# Altium footprint library MPU6050.PcbLib: 1 footprints
Each footprint in its own frame and in the unit in brackets; x right, y up, seen from the top. Pads: shape width x height; smd on the part's side, far side on the other; paste and mask are expansions set on the pad; w line width, h text height; cw(c..) or ccw(c..) is an arc to the next point about the centre after c.
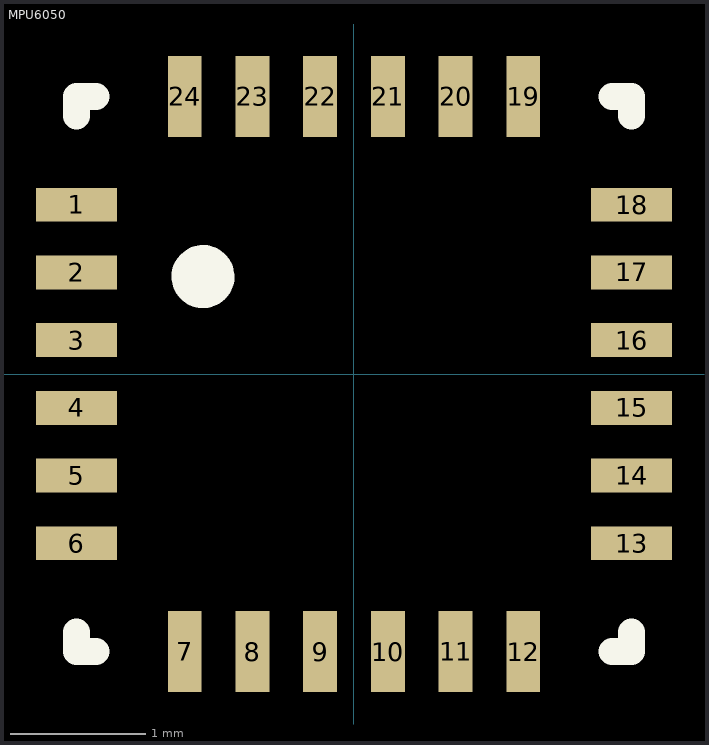
[diagram p0: the footprint, top view; thin cyan lines are the x and y axes]

## MPU6050 [mm]
pads (24):
  rect 0.6x0.25 smd: 1(-2.05,1.25) 2(-2.05,0.75) 3(-2.05,0.25) 4(-2.05,-0.25) 5(-2.05,-0.75) 13(2.05,-1.25) 14(2.05,-0.75) 15(2.05,-0.25) 16(2.05,0.25) 17(2.05,0.75) 18(2.05,1.25)
  rect 0.6x0.25 smd mask+0.102: 6(-2.05,-1.25)
  rect 0.25x0.6 smd: 7(-1.25,-2.05) 8(-0.75,-2.05) 9(-0.25,-2.05) 10(0.25,-2.05) 11(0.75,-2.05) 12(1.25,-2.05) 19(1.25,2.05) 20(0.75,2.05) 21(0.25,2.05) 22(-0.25,2.05) 23(-0.75,2.05) 24(-1.25,2.05)
Top Overlay:
  lines w0.2: -2.05,-1.905 -2.05,-2.05 -1.905,-2.05 ; -2.05,1.905 -2.05,2.05 -1.905,2.05 ; 1.905,-2.05 2.05,-2.05 2.05,-1.905 ; 1.905,2.05 2.05,2.05 2.05,1.905
  lines w0.25: -1.016,0.762 ccw(c-1.115,0.719) -1.007,0.719